# Altium footprint library EEPROM_Microchip_93LC56BT_IOT_SOT23-6.PcbLib: 1 footprints
Each footprint in its own frame and in the unit in brackets; x right, y up, seen from the top. Pads: shape width x height; smd on the part's side, far side on the other; paste and mask are expansions set on the pad; w line width, h text height; cw(c..) or ccw(c..) is an arc to the next point about the centre after c.
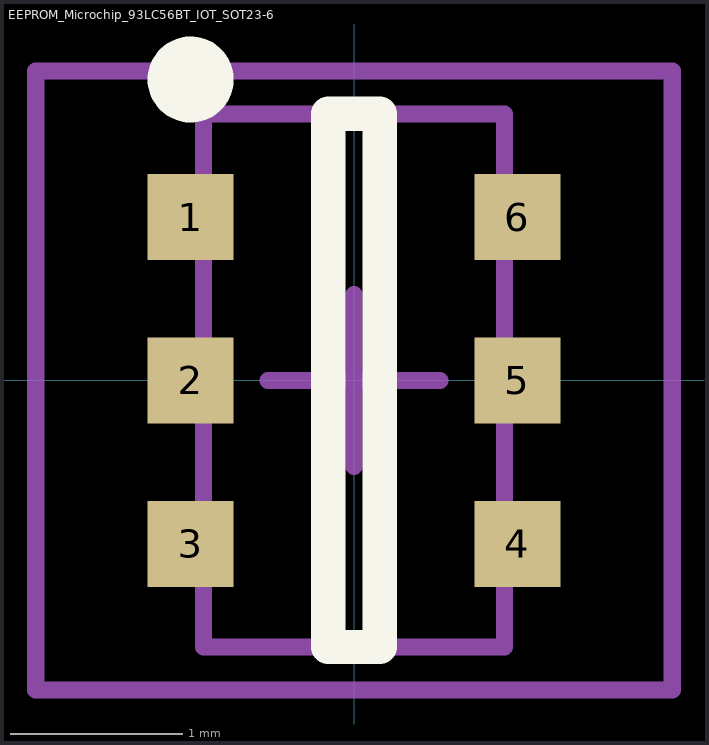
[diagram p0: the footprint, top view; thin cyan lines are the x and y axes]

## EEPROM_Microchip_93LC56BT_IOT_SOT23-6 [mm] "93LC56BT-I/OT, EEPROM 2Kbit 3MHz, SOT23-6"
height 1.45
pads (6):
  rect 0.5x0.5 smd: 1(-0.95,0.95) 2(-0.95,0) 3(-0.95,-0.95) 4(0.95,-0.95) 5(0.95,0) 6(0.95,0.95)
Top Overlay:
  circle w0.25: c-0.95,1.75 r0.125
  lines w0.2: -0.15,-1.55 -0.15,1.55 0.15,1.55 0.15,-1.55 -0.15,-1.55
Mechanical 13:
  lines w0.1: -0.875,-1.55 0.875,-1.55 0.875,1.55 -0.875,1.55 -0.875,-1.55
Mechanical 15:
  lines w0.1: -0.5,0 0.5,0 ; 0,-0.5 0,0.5 ; -1.85,-1.8 1.85,-1.8 1.85,1.8 -1.85,1.8 -1.85,-1.8
3D body: height 1.45, standoff 0, extent -0.875,-1.55 0.875,1.55